# Altium footprint library ESP32.PcbLib: 1 footprints
Each footprint in its own frame and in the unit in brackets; x right, y up, seen from the top. Pads: shape width x height; smd on the part's side, far side on the other; paste and mask are expansions set on the pad; w line width, h text height; cw(c..) or ccw(c..) is an arc to the next point about the centre after c.
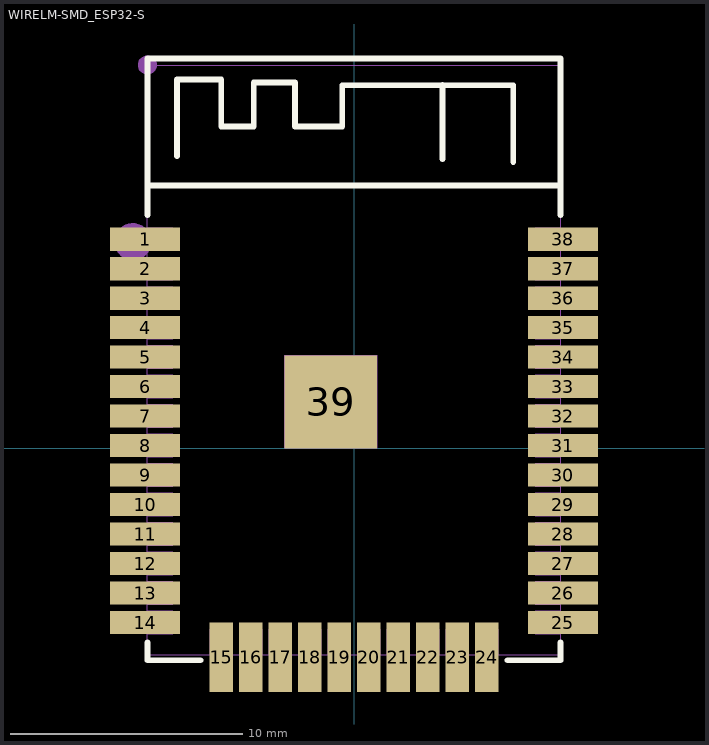
[diagram p0: the footprint, top view; thin cyan lines are the x and y axes]

## WIRELM-SMD_ESP32-S [mil]
pads (39):
  rect 118.1x39.4 smd mask+2: 1(-354.3,354.5) 2(-354.3,304.5) 3(-354.3,254.5) 4(-354.3,204.5) 5(-354.3,154.5) 6(-354.3,104.5) 7(-354.3,54.5) 8(-354.3,4.5) 9(-354.3,-45.5) 10(-354.3,-95.5) 11(-354.3,-145.5) 12(-354.3,-195.5) 13(-354.3,-245.5) 14(-354.3,-295.5) 25(354.3,-295.5) 26(354.3,-245.5) 27(354.3,-195.5) 28(354.3,-145.5) 29(354.3,-95.5) 30(354.3,-45.5) 31(354.3,4.5) 32(354.3,54.5) 33(354.3,104.5) 34(354.3,154.5) 35(354.3,204.5) 36(354.3,254.5) 37(354.3,304.5) 38(354.3,354.5)
  rect 39.4x118.1 smd mask+2: 15(-225,-354.5) 16(-175,-354.5) 17(-125,-354.5) 18(-75,-354.5) 19(-25,-354.5) 20(25,-354.5) 21(75,-354.5) 22(125,-354.5) 23(175,-354.5) 24(225,-354.5)
  rect 157.5x157.5 smd mask+2: 39(-39.4,78.6)
Top Overlay:
  lines w10: -350,-329.5 -350,-359.5 -260,-359.5 ; -350,395.5 -350,660.5 350,660.5 350,395.5 ; -350,445.5 350,445.5 ; -300,495.4 -300,625.4 -225,625.4 -225,545.4 -170,545.4 -170,620.4 -100,620.4 -100,545.4 -20,545.4 -20,615.4 270,615.4 270,485.4 ; 150,490.5 150,615.5 ; 260,-359.5 350,-359.5 350,-329.5
Mechanical 6:
  circle w31.5: c-375,350 r15.8
Mechanical 15:
  drawing of 44 lines, arcs and shapes, not listed